# Altium schematic symbol library SN74LVC1G07.Schlib: 1 symbol
Pins are listed as number, name and electrical type; pins without a type are passive.

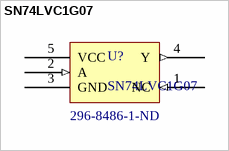
[diagram p0: symbol SN74LVC1G07]

## SN74LVC1G07
designator U?  Supplier Part Number 1: 296-8486-1-ND
Single element non-inverting open drain buffer; Supplier 1: Digi-Key
footprint SOT65P210X110-5N (SOT23, 5-Leads, Body 2.00x2.10mm, Pitch 0.65mm, IPC Medium Density)
pins: 1 NC (in), 2 A (in), 3 GND (power), 4 Y (out), 5 VCC (power)